# Altium schematic symbol library BNO055 Breakout.SchLib: 1 symbol
Pins are listed as number, name and electrical type; pins without a type are passive.

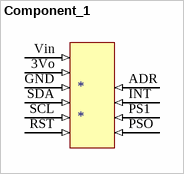
[diagram p0: symbol Component_1]

## Component_1
designator *
pins: 3Vo (in), ADR (in), GND (in), INT (in), PS1 (in), PSO (in), RST (in), SCL (in), SDA (in), Vin (in)